# Altium integrated library Rohm Semiconductor Sensors&MEMS.IntLib: 1 symbol
Pins are listed as number, name and electrical type; pins without a type are passive.

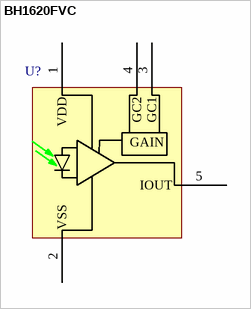
[diagram p0: symbol BH1620FVC]

## BH1620FVC
designator U?
Optical Sensor Ambient 560nm Current SOT-665; Manufacturer: Rohm Semiconductor; PartNumber: BH1620FVC-TR; Package: 5-WSOF; PackageDescription: NA; Supplier 1: Digi-Key; Supplier Part Number 1: BH1620FVCTR-ND
footprint WSOF5_L (WSOF, 5-Leads, Body 1.6x1.2mm, Pitch 0.50mm, IPC Low Density)
footprint WSOF5_M (WSOF, 5-Leads, Body 1.6x1.2mm, Pitch 0.50mm, IPC High Density)
footprint WSOF5_N (WSOF, 5-Leads, Body 1.6x1.2mm, Pitch 0.50mm, IPC Medium Density)
pins: 1 VDD (power) "Power Supply", 2 VSS (power) "Power Ground", 3 GC1 "Gain Select 1", 4 GC2 "Gain Select 2", 5 IOUT "I out"
text: GAIN